# EAGLE library part IR2E49U6 (library sharp)
Current Driver IC for LED 5 sets of 7 LEDs in series Source: http://document.sharpsma.com/files/IR2E49U6.pdf
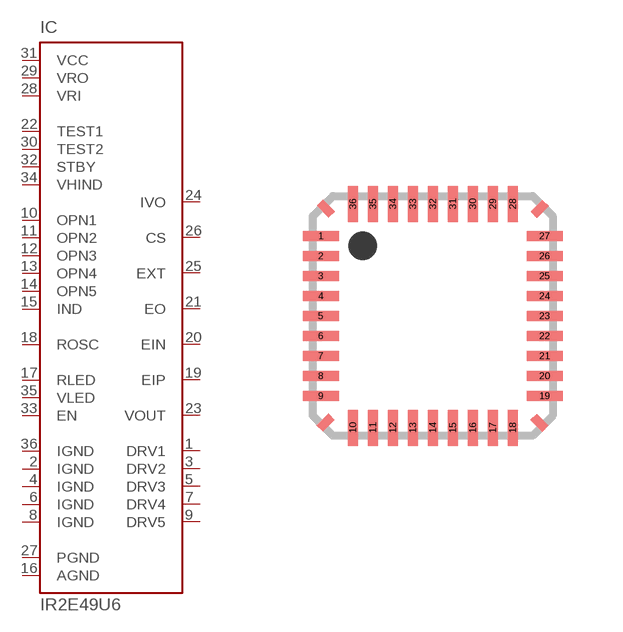
[diagram p0: symbol with the pads of VQFN036-P-0606; footprint VQFN036-P-0606]

Designator prefix IC

## IR2E49U6 (OC_FARNELL: unknown; OC_NEWARK: unknown)  [VQFN036-P-0606]
1  DRV1  out
2  IGND  pwr
3  DRV2  out
4  IGND  pwr
5  DRV3  out
6  IGND  pwr
7  DRV4  out
8  IGND  pwr
9  DRV5  out
10  OPN1  in
11  OPN2  in
12  OPN3  in
13  OPN4  in
14  OPN5  in
15  IND  in
16  AGND  pwr
17  RLED  in
18  ROSC  pas
19  EIP  pas
20  EIN  pas
21  EO  out
22  TEST1  in
23  VOUT  in
24  IVO  pas
25  EXT  out
26  CS  in
27  PGND  pwr
28  VRI  in
29  VRO  pas
30  TEST2  in
31  VCC  pwr
32  STBY  in
33  EN  in
34  VHIND  in
35  VLED  in
36  IGND  pwr

## Footprint VQFN036-P-0606 (pad centres in mm)
VQFN036-P-0606 Source: http://document.sharpsma.com/files/IR2E49U6.pdf
smd 0.9 x 0.25: 1 -2.8,2; 2 -2.8,1.5; 3 -2.8,1; 4 -2.8,0.5; 5 -2.8,0; 6 -2.8,-0.5; 7 -2.8,-1; 8 -2.8,-1.5; 9 -2.8,-2; 19 2.8,-2; 20 2.8,-1.5; 21 2.8,-1; 22 2.8,-0.5; 23 2.8,0; 24 2.8,0.5; 25 2.8,1; 26 2.8,1.5; 27 2.8,2
smd 0.25 x 0.9: 10 -2,-2.8; 11 -1.5,-2.8; 12 -1,-2.8; 13 -0.5,-2.8; 14 0,-2.8; 15 0.5,-2.8; 16 1,-2.8; 17 1.5,-2.8; 18 2,-2.8; 28 2,2.8; 29 1.5,2.8; 30 1,2.8; 31 0.5,2.8; 32 0,2.8; 33 -0.5,2.8; 34 -1,2.8; 35 -1.5,2.8; 36 -2,2.8